# Altium footprint library Shield_Connector.PcbLib: 1 footprints
Each footprint in its own frame and in the unit in brackets; x right, y up, seen from the top. Pads: shape width x height; smd on the part's side, far side on the other; paste and mask are expansions set on the pad; w line width, h text height; cw(c..) or ccw(c..) is an arc to the next point about the centre after c.
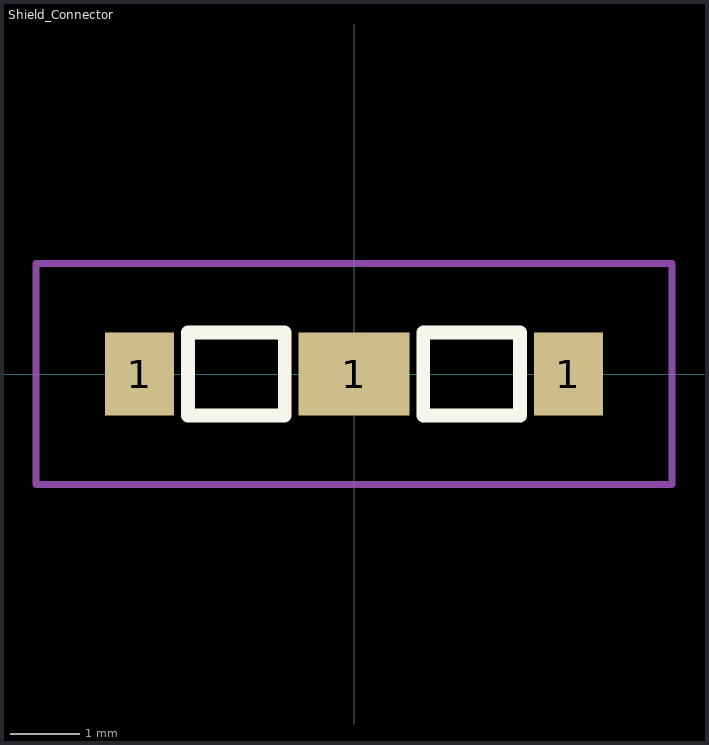
[diagram p0: the footprint, top view; thin cyan lines are the x and y axes]

## Shield_Connector [mm]
pads (3):
  rect 1x1.2 smd: 1(-3.1,0) 1(3.1,0)
  rect 1.6x1.2 smd: 1(0,0)
Top Overlay:
  lines w0.2: -2.4,-0.6 -2.4,0.6 -1,0.6 -1,-0.6 -2.4,-0.6 ; 1,-0.6 1,0.6 2.4,0.6 2.4,-0.6 1,-0.6
Top Courtyard:
  lines w0.1: -4.6,-1.6 4.6,-1.6 4.6,1.6 -4.6,1.6 -4.6,-1.6
3D body: height 1.5, standoff 0, extent -3.4,-0.4 3.4,0.4